# EAGLE library part SBDBT (library MyLib)
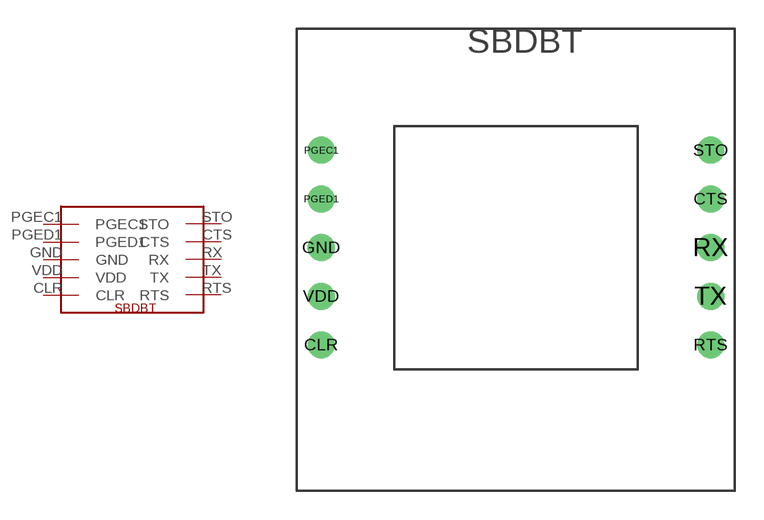
[diagram p2: symbol with the pads of SBDBT; footprint SBDBT]

Designator prefix -

## SBDBT  [SBDBT]
CLR  CLR
CTS  CTS
GND  GND
PGEC1  PGEC1
PGED1  PGED1
RTS  RTS
RX  RX
STO  STO
TX  TX
VDD  VDD

## Footprint SBDBT (pad centres in mm)
drill 0.9: CLR -10.16,-5.08; CTS 10.16,2.54; GND -10.16,0; PGEC1 -10.16,5.08; PGED1 -10.16,2.54; RTS 10.16,-5.08; RX 10.16,0; STO 10.16,5.08; TX 10.16,-2.54; VDD -10.16,-2.54